# Altium schematic symbol library TPS78633DCQR.SchLib: 1 symbol
Pins are listed as number, name and electrical type; pins without a type are passive.

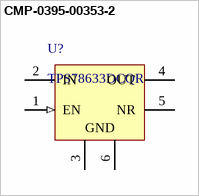
[diagram p0: symbol CMP-0395-00353-2]

## CMP-0395-00353-2
designator U?, comment TPS78633DCQR
Single Output High PSRR LDO, 1.5 A, Fixed 3.3 V Output, 2.7 to 5.5 V Input, 6-pin SOT-223 (DCQ), -40 to 125 degC, Green (RoHS & no Sb/Br); Manufacturer: Texas Instruments; Vdo(Typ)(mV): 340; Iq(Typ)(mA): 0.02; Fixed Output Options(V): 3.3; Iout(Max)(A): 1.5; Accuracy(%): 3; SubFamily: Single Channel LDO; Vin(Max)(V): 5.5; Vin(Min)(V): 2.7; ComponentLink2URL: http://www.ti.com/general/docs/lit/getliterature.tsp?genericPartNumber=TPS78633&fileType=pdf; PackageDescription: 6-Pin Plastic Small Outline, Body 3.5 x 6.5 mm, Pitch 1.27 mm; Eco-Plan: Green (RoHS & no Sb/Br); ComponentLink2Description: Datasheet; ComponentLink1URL: http://www.ti.com/; Mounting Technology: Surface Mount; Vout Adj(Min)(V): 3.3; ComponentLink1Description: Manufacturer URL; PackageReference: DCQ0006A; ComponentLink3URL: http://www.ti.com/litv/pdf/mpds098c; PackageVersion: 4202109/D; ComponentLink3Description: Package Specification; PartNumber: TPS78633DCQR; Vout Adj(Max)(V): 3.3; DatasheetVersion: SLVS389L
footprint DCQ0006A_L (SOT223, 6-Leads, Body 6.55x3.55mm, Pitch 1.27mm, IPC High Density)
footprint DCQ0006A_N (SOT223, 6-Leads, Body 6.55x3.55mm, Pitch 1.27mm, IPC Medium Density)
footprint DCQ0006A_M (SOT223, 6-Leads, Body 6.55x3.55mm, Pitch 1.27mm, IPC Low Density)
pins: 1 EN (in) "The EN terminal is an input that enables or shuts down the device. When EN is a logic high, the device is enabled. When the device is a logic low, the device is in shutdown mode.", 2 IN (power) "Unregulated input to the device.", 3 GND (power) "Regulator ground", 4 OUT (power) "Regulator output", 5 NR "Connecting an external capacitor to this pin bypasses noise generated by the internal bandgap, which improves power-supply rejection and reduces output noise.", 6 GND (power) "Regulator ground"